# EAGLE library part 1.5INCHRGBOLEDMODULE (library waveshare)
1.5inch RGB OLED Module SKU: 14747 This is a general RGB OLED display Module, 1.5inch diagonal, 128x128 pixels, 16-bit high color (65K colors), with embedded controller, communicating via SPI interface. Buy in Waveshare shop <https://www.waveshare.com/1.5inch-rgb-oled-module.htm> User manual <https://www.waveshare.com/w/upload/5/5b/1.5inch_RGB_OLED_Module_User_Manual_EN.pdf> Schematic <https://www.waveshare.com/w/upload/a/a3/1.5inch_RGB_OLED_Module_Schematic.pdf> SSD1351 datasheet <https://www.waveshare.com/w/upload/a/a7/SSD1351-Revision_1.5.pdf> UG-2828GDEDF11 datashet <https://www.waveshare.com/w/upload/4/43/UG-2828GDEDF11.pdf>
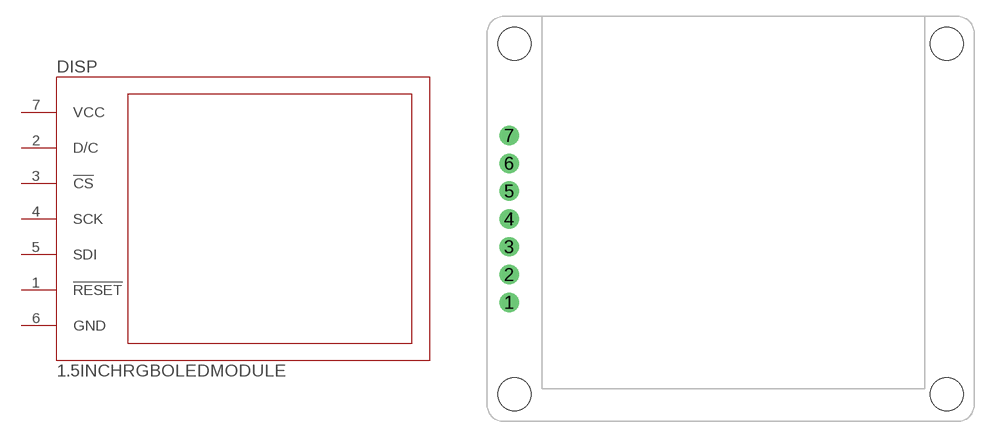
[diagram p0: symbol with the pads of 1.5"OLED; footprint 1.5"OLED]

Designator prefix DISP

## 1.5INCHRGBOLEDMODULE  [1.5"OLED]
1  !RESET!
2  D/C
3  !CS!
4  SCK
5  SDI
6  GND
7  VCC

## Footprint 1.5"OLED (pad centres in mm)
drill 1.016 pad 1.778: 1 2,10.88; 2 2,13.42; 3 2,15.96; 4 2,18.5; 5 2,21.04; 6 2,23.58; 7 2,26.12
hole 3 at 2.5,2.5
hole 3 at 42,2.5
hole 3 at 42,34.5
hole 3 at 2.5,34.5